# EAGLE library part FFB2222A (library CPSS_IC)
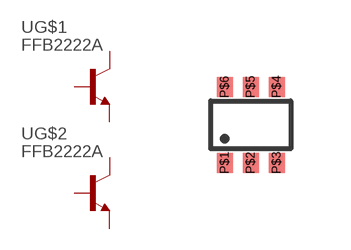
[diagram p4: symbol with the pads of SC-88; footprint SC-88]

Designator prefix -; gates G$1=NPN G$2=NPN

## FFB2222A  [SC-88]
P$1  G$1:E  pas
P$2  G$1:B  pas
P$3  G$2:C  pas
P$4  G$2:E  pas
P$5  G$2:B  pas
P$6  G$1:C  pas

## Footprint SC-88 (pad centres in mm)
smd 0.4 x 0.5: P$1 -0.65,-0.95; P$2 0,-0.95; P$3 0.65,-0.95; P$4 0.65,0.95; P$5 0,0.95; P$6 -0.65,0.95